# EAGLE library part 90130-1?08 (library con-molex-c-grid)
C-Grid III
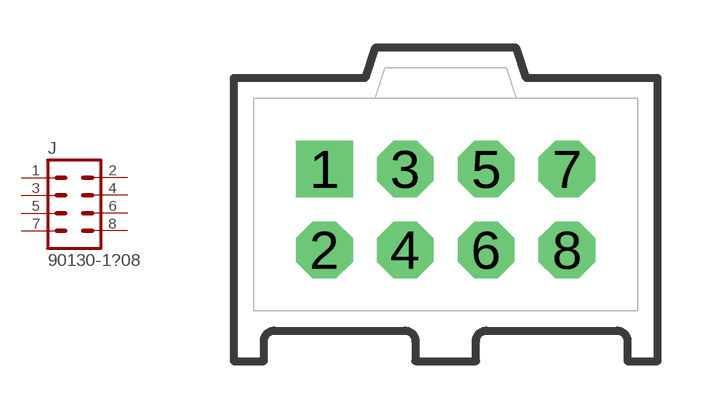
[diagram p81: symbol with the pads of 90130-1?08; footprint 90130-1?08]

Designator prefix J

## 90130-108  [90130-1?08]
1  1  pas
2  2  pas
3  3  pas
4  4  pas
5  5  pas
6  6  pas
7  7  pas
8  8  pas

## Footprint 90130-1?08 (pad centres in mm)
C-Grid III vertical, dual row
drill 1.016 pad 1.778 square: 1 -3.81,1.27
drill 1.016 pad 1.778 octagon: 2 -3.81,-1.27; 3 -1.27,1.27; 4 -1.27,-1.27; 5 1.27,1.27; 6 1.27,-1.27; 7 3.81,1.27; 8 3.81,-1.27